# Altium footprint library Altium Example Master PCB Library.PcbLib: 219 footprints (part 11 of 14)
Each footprint in its own frame and in the unit in brackets; x right, y up, seen from the top. Pads: shape width x height; smd on the part's side, far side on the other; paste and mask are expansions set on the pad; w line width, h text height; cw(c..) or ccw(c..) is an arc to the next point about the centre after c.
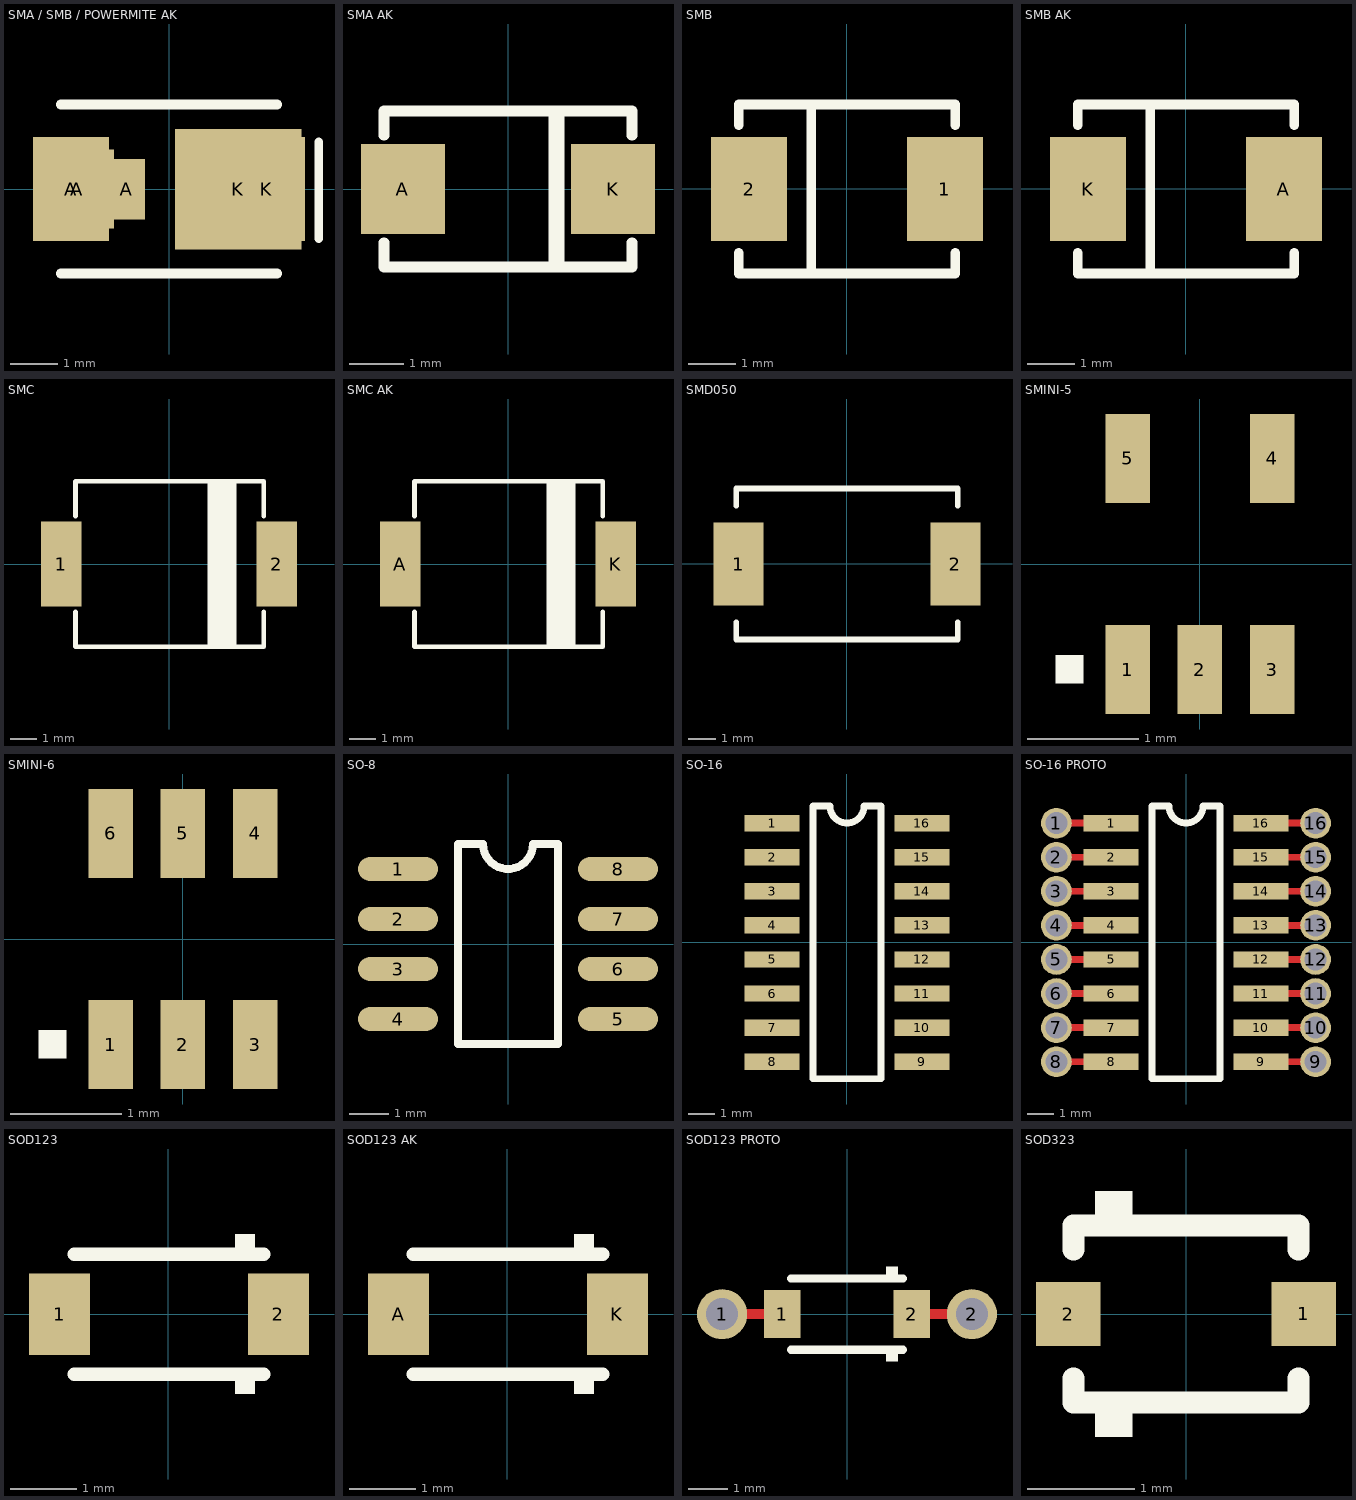
[diagram p10: the footprints below, top view; thin cyan lines are the x and y axes]

## SMA / SMB / POWERMITE AK [mm]
pads (5):
  rect 1.6x2.2 smd: A(-2.074,0.003) K(2.053,0.003)
  rect 1.56x1.67 smd: A(-1.95,0)
  rect 0.762x1.27 smd: A(-0.901,0)
  rect 2.67x2.54 smd: K(1.45,0)
Top Overlay:
  lines w0.178: 3.15,-1.05 3.15,1
  lines w0.203: -2.297,-1.779 2.275,-1.779 ; -2.297,1.785 2.275,1.785

## SMA AK [mm]
pads (2):
  rect 1.56x1.67 smd: A(-1.95,0) K(1.95,0)
Top Overlay:
  lines w0.2: -2.3,-1 -2.3,-1.45 0,-1.45 2.3,-1.45 2.3,-1 ; -2.3,1 -2.3,1.45 0,1.45 2.3,1.45 2.3,1
  lines w0.3: 0.9,-1.35 0.9,1.4

## SMB [mm]
pads (2):
  rect 1.6x2.2 smd: 1(2.074,-0.003) 2(-2.053,-0.003)
Top Overlay:
  lines w0.2: -0.74,-1.785 -0.74,1.747
  lines w0.203: -2.275,-1.353 -2.275,-1.785 2.297,-1.785 2.297,-1.353 ; -2.275,1.347 -2.275,1.779 2.297,1.779 2.297,1.347

## SMB AK [mm]
pads (2):
  rect 1.6x2.2 smd: A(2.074,-0.003) K(-2.053,-0.003)
Top Overlay:
  lines w0.2: -0.74,-1.785 -0.74,1.747
  lines w0.203: -2.275,-1.353 -2.275,-1.785 2.297,-1.785 2.297,-1.353 ; -2.275,1.347 -2.275,1.779 2.297,1.779 2.297,1.347

## SMC [mil]
pads (2):
  rect 60x126 smd: 1(-160,0) 2(160,0)
Top Overlay:
  region: 57,123 57,-123 100,-123 100,123
  lines w7: -139,-71 -139,-123 141,-123 141,-71 ; -139,71 -139,123 141,123 141,71

## SMC AK [mil]
pads (2):
  rect 60x126 smd: A(-160,0) K(160,0)
Top Overlay:
  region: 57,123 57,-123 100,-123 100,123
  lines w7: -139,-71 -139,-123 141,-123 141,-71 ; -139,71 -139,123 141,123 141,71

## SMD050 [mm]
pads (2):
  rect 1.8x3 smd: 1(-3.889,-0.003) 2(3.911,-0.003)
Top Overlay:
  lines w0.203: -3.977,-2.103 -3.977,-2.721 3.998,-2.721 3.998,-2.103 ; -3.977,2.097 -3.977,2.715 3.998,2.715 3.998,2.097

## SMINI-5 [mm]
pads (5):
  rect 0.4x0.8 smd: 1(-0.65,-0.95) 2(0,-0.95) 3(0.65,-0.95) 4(0.65,0.95) 5(-0.65,0.95)
Top Overlay:
  rectangle: -1.3,-1.075 -1.046,-0.821

## SMINI-6 [mm]
pads (6):
  rect 0.4x0.8 smd: 1(-0.65,-0.95) 2(0,-0.95) 3(0.65,-0.95) 4(0.65,0.95) 5(0,0.95) 6(-0.65,0.95)
Top Overlay:
  rectangle: -1.3,-1.075 -1.046,-0.821

## SO-8 [mil]
pads (8):
  oval 80x24 smd: 1(-110,75) 2(-110,25) 3(-110,-25) 4(-110,-75) 5(110,-75) 6(110,-25) 7(110,25) 8(110,75)
Top Overlay:
  lines w8: -50,-100 -50,100 -25,100 ccw(c0,100) 25,100 50,100 50,-100 -50,-100

## SO-16 [mil]
pads (16):
  rect 80x24 smd: 1(-110,175) 2(-110,125) 3(-110,75) 4(-110,25) 5(-110,-25) 6(-110,-75) 7(-110,-125) 8(-110,-175) 9(110,-175) 10(110,-125) 11(110,-75) 12(110,-25) 13(110,25) 14(110,75) 15(110,125) 16(110,175)
Top Overlay:
  lines w10: -50,-200 -50,200 -25,200 ccw(c0,200) 25,200 50,200 50,-200 -50,-200

## SO-16 PROTO [mil]
pads (32):
  round 45 hole 32: 1(-190,175) 2(-190,125) 3(-190,75) 4(-190,25) 5(-190,-25) 6(-190,-75) 7(-190,-125) 8(-190,-175) 9(190,-175) 10(190,-125) 11(190,-75) 12(190,-25) 13(190,25) 14(190,75) 15(190,125) 16(190,175)
  rect 80x24 smd paste-100: 1(-110,175) 2(-110,125) 3(-110,75) 4(-110,25) 5(-110,-25) 6(-110,-75) 7(-110,-125) 8(-110,-175) 9(110,-175) 10(110,-125) 11(110,-75) 12(110,-25) 13(110,25) 14(110,75) 15(110,125) 16(110,175)
Top Layer:
  lines w10: -190,-175 -110,-175 ; -190,-125 -110,-125 ; -190,-75 -110,-75 ; -190,-25 -110,-25 ; -190,25 -110,25 ; -190,125 -110,125 ; -190,175 -110,175 ; -189.33,75 -110,75 ; 110,-175 190,-175 ; 110,-125 190,-125 ; 110,-75 190,-75 ; 110,-25 190,-25 ; 110,25 190,25 ; 110,75 190,75 ; 110,125 190,125 ; 110,175 190,175
Top Overlay:
  lines w10: -50,-200 50,-200 50,200 25,200 cw(c0,200) -25,200 -50,200 -50,-200

## SOD123 [mil]
pads (2):
  rect 36x48 smd: 1(-64.09,-0.13) 2(64.91,-0.13)
Top Overlay:
  rectangle: 39.37,-47.24 51.18,-35.63
  rectangle: 39.37,35.37 51.18,47.24
  lines w8: -55.59,-35.63 56.41,-35.63 ; -55.59,35.37 56.41,35.37 ; 31.91,-35.63 35.85,-35.63

## SOD123 AK [mil]
pads (2):
  rect 36x48 smd: A(-64.09,-0.13) K(64.91,-0.13)
Top Overlay:
  rectangle: 39.37,-47.24 51.18,-35.63
  rectangle: 39.37,35.37 51.18,47.24
  lines w8: -55.59,-35.63 56.41,-35.63 ; -55.59,35.37 56.41,35.37 ; 31.91,-35.63 35.85,-35.63

## SOD123 PROTO [mil]
pads (4):
  round 50 hole 32: 1(-124.5,0) 2(124.5,0)
  rect 36x48 smd paste-100: 1(-64.5,0) 2(64.5,0)
Top Layer:
  lines w10: -124.5,0 -64.5,0 ; 64.5,0 124.5,0
Top Overlay:
  rectangle: 38.96,35.5 50.77,47.37
  rectangle: 38.96,-47.12 50.77,-35.5
  lines w8: -56,-35.5 56,-35.5 ; -56,35.5 56,35.5 ; 31.5,-35.5 35.43,-35.5

## SOD323 [mm]
pads (2):
  rect 0.6x0.6 smd: 1(1.1,0) 2(-1.1,0)
Top Overlay:
  rectangle: -0.85,0.85 -0.5,1.15
  rectangle: -0.85,-1.15 -0.5,-0.85
  lines w0.203: -1.05,-0.6 -1.05,-0.825 1.05,-0.825 1.05,-0.6 ; -1.05,0.6 -1.05,0.825 1.05,0.825 1.05,0.6 ; -0.5,-0.825 -0.4,-0.825 ; -0.4,0.825 -0.3,0.825